# Altium integrated library ZMDI IO-LINK.IntLib: 8 symbols
Pins are listed as number, name and electrical type; pins without a type are passive.

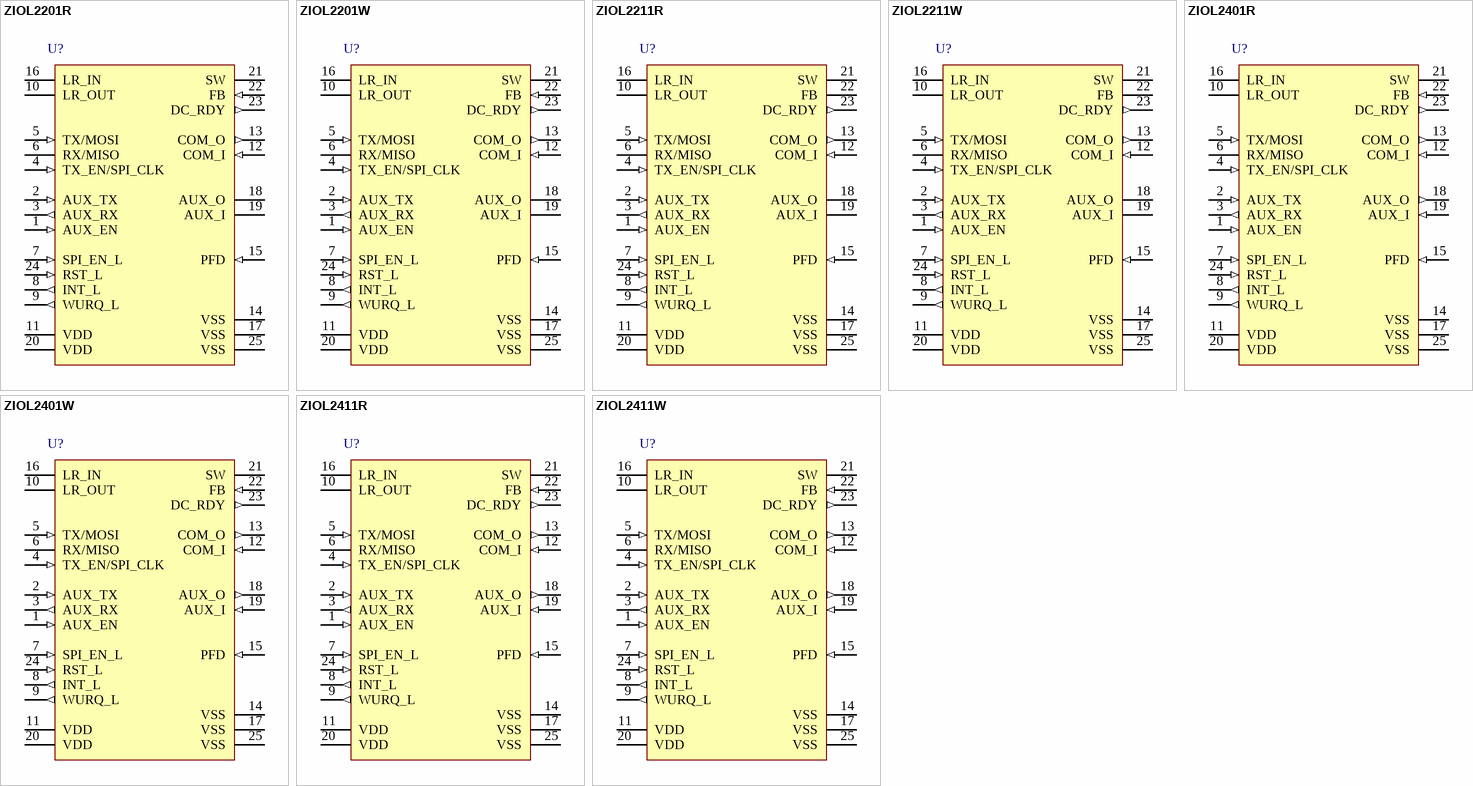
[diagram p0: symbols ZIOL2201R to ZIOL2411W]

## ZIOL2201R
designator U?
IO-Link Compliant HV Line Driver IC, 1 Channel, 8 to 36 V Supply Voltage, -40 to 85 degC, 24-Pin QFN, Reel, RoHS; Manufacturer: ZMDI; PartNumber: ZIOL2201R; Number of Channels: 1; Supply Voltage (V): 8 to 36; DatasheetVersion: Rev. 2.2.1; PackageReference: QFN24; PackageDescription: 24-Pin Plastic Quad Flatpack, No Leads, 4 x 4 mm Body, 0.5 mm Pitch, 2.6 x 2.6 mm Exposed Pad; Supplier 1: Mouser; Supplier Part Number 1: 964-ZIOL2201BI1R; Packing: Reel; RoHS: TRUE; Mounting Technology: Surface Mount; Code_JEDEC: MO-220; ComponentLink1Description: Manufacturer URL; ComponentLink1URL: http://www.zmdi.com/; ComponentLink2Description: Datasheet; ComponentLink2URL: http://www.zmdi.com/sites/default/files/ZIOL2xxx-Data_Sheet_Rev2.2.1_0.pdf; ComponentLink3Description: Package Specification; ComponentLink3URL: http://www.zmdi.com/sites/default/files/ZIOL2xxx-Data_Sheet_Rev2.2.1_0.pdf
footprint ZMDI-QFN24_N (QFN, 24-Leads, Body 4.1x4.1mm, Pitch 0.5mm, Thermal Pad 2.6x2.6mm, IPC Medium Density)
footprint ZMDI-QFN24_L (QFN, 24-Leads, Body 4.1x4.1mm, Pitch 0.5mm, Thermal Pad 2.6x2.6mm, IPC High Density)
footprint ZMDI-QFN24_M (QFN, 24-Leads, Body 4.1x4.1mm, Pitch 0.5mm, Thermal Pad 2.6x2.6mm, IPC Low Density)
pins: 1 AUX_EN (in) "AUX driver enable", 2 AUX_TX (in) "TX:Data input", 3 AUX_RX (out) "RX:Data output", 4 TX_EN/SPI_CLK (in) "COM driver enable", 5 TX/MOSI (in) "TX:Data input    MOSI:SPI IN", 6 RX/MISO (hiz) "RX:Data output    MISO:SPI OUT", 7 SPI_EN_L (in) "SPI enable", 8 INT_L (out) "Overload indication", 9 WURQ_L (out) "Wake up detect signal", 10 LR_OUT (power) "Linear regulator Output Voltage (LV)", 11 VDD (power) "Positive external supply voltage pins", 12 COM_I (in) "COM driver IN", 13 COM_O (out) "COM driver OUT", 14 VSS (power) "Negative external supply voltage pins", 15 PFD (in) "Power Fail Detector(sense input of the line-fail detector)", 16 LR_IN (power) "Linear regulator Input Voltage (HV)", 17 VSS (power) "Negative external supply voltage pins", 18 AUX_O "AUX driver OUT", 19 AUX_I "AUX driver IN", 20 VDD (power) "Positive external supply voltage pins", 21 SW (power) "DC/DC switch OUT", 22 FB (in) "DC/DC feed back", 23 DC_RDY (out) "DC/DC ready signal", 24 RST_L (in) "Reset Input", 25 VSS (power) "Exposed die paddle"

## ZIOL2201W
designator U?
IO-Link Compliant HV Line Driver IC, 1 Channel, 8 to 36 V Supply Voltage, -40 to 85 degC, 24-Pin QFN, Reel, RoHS; Manufacturer: ZMDI; PartNumber: ZIOL2201W; Number of Channels: 1; Supply Voltage (V): 8 to 36; DatasheetVersion: Rev. 2.2.1; PackageReference: QFN24; PackageDescription: 24-Pin Plastic Quad Flatpack, No Leads, 4 x 4 mm Body, 0.5 mm Pitch, 2.6 x 2.6 mm Exposed Pad; Supplier 1: Mouser; Supplier Part Number 1: 964-ZIOL2201BI1W; Packing: Reel; RoHS: TRUE; Mounting Technology: Surface Mount; Code_JEDEC: MO-220; ComponentLink1Description: Manufacturer URL; ComponentLink1URL: http://www.zmdi.com/; ComponentLink2Description: Datasheet; ComponentLink2URL: http://www.zmdi.com/sites/default/files/ZIOL2xxx-Data_Sheet_Rev2.2.1_0.pdf; ComponentLink3Description: Package Specification; ComponentLink3URL: http://www.zmdi.com/sites/default/files/ZIOL2xxx-Data_Sheet_Rev2.2.1_0.pdf
footprint ZMDI-QFN24_N (QFN, 24-Leads, Body 4.1x4.1mm, Pitch 0.5mm, Thermal Pad 2.6x2.6mm, IPC Medium Density)
footprint ZMDI-QFN24_L (QFN, 24-Leads, Body 4.1x4.1mm, Pitch 0.5mm, Thermal Pad 2.6x2.6mm, IPC High Density)
footprint ZMDI-QFN24_M (QFN, 24-Leads, Body 4.1x4.1mm, Pitch 0.5mm, Thermal Pad 2.6x2.6mm, IPC Low Density)
pins: 1 AUX_EN (in) "AUX driver enable", 2 AUX_TX (in) "TX:Data input", 3 AUX_RX (out) "RX:Data output", 4 TX_EN/SPI_CLK (in) "COM driver enable", 5 TX/MOSI (in) "TX:Data input    MOSI:SPI IN", 6 RX/MISO (hiz) "RX:Data output    MISO:SPI OUT", 7 SPI_EN_L (in) "SPI enable", 8 INT_L (out) "Overload indication", 9 WURQ_L (out) "Wake up detect signal", 10 LR_OUT (power) "Linear regulator Output Voltage (LV)", 11 VDD (power) "Positive external supply voltage pins", 12 COM_I (in) "COM driver IN", 13 COM_O (out) "COM driver OUT", 14 VSS (power) "Negative external supply voltage pins", 15 PFD (in) "Power Fail Detector(sense input of the line-fail detector)", 16 LR_IN (power) "Linear regulator Input Voltage (HV)", 17 VSS (power) "Negative external supply voltage pins", 18 AUX_O "AUX driver OUT", 19 AUX_I "AUX driver IN", 20 VDD (power) "Positive external supply voltage pins", 21 SW (power) "DC/DC switch OUT", 22 FB (in) "DC/DC feed back", 23 DC_RDY (out) "DC/DC ready signal", 24 RST_L (in) "Reset Input", 25 VSS (power) "Exposed die paddle"

## ZIOL2211R
designator U?
IO-Link Compliant HV Line Driver IC, 1 Channel, 8 to 36 V Supply Voltage, -40 to 85 degC, 24-Pin QFN, Reel, RoHS; Manufacturer: ZMDI; PartNumber: ZIOL2211R; Number of Channels: 1; Supply Voltage (V): 8 to 36; DatasheetVersion: Rev. 2.2.1; PackageReference: QFN24; PackageDescription: 24-Pin Plastic Quad Flatpack, No Leads, 4 x 4 mm Body, 0.5 mm Pitch, 2.6 x 2.6 mm Exposed Pad; Supplier 1: Mouser; Supplier Part Number 1: 964-ZIOL2211BI1R; Packing: Reel; RoHS: TRUE; Mounting Technology: Surface Mount; Code_JEDEC: MO-220; ComponentLink1Description: Manufacturer URL; ComponentLink1URL: http://www.zmdi.com/; ComponentLink2Description: Datasheet; ComponentLink2URL: http://www.zmdi.com/sites/default/files/ZIOL2xxx-Data_Sheet_Rev2.2.1_0.pdf; ComponentLink3Description: Package Specification; ComponentLink3URL: http://www.zmdi.com/sites/default/files/ZIOL2xxx-Data_Sheet_Rev2.2.1_0.pdf
footprint ZMDI-QFN24_N (QFN, 24-Leads, Body 4.1x4.1mm, Pitch 0.5mm, Thermal Pad 2.6x2.6mm, IPC Medium Density)
footprint ZMDI-QFN24_L (QFN, 24-Leads, Body 4.1x4.1mm, Pitch 0.5mm, Thermal Pad 2.6x2.6mm, IPC High Density)
footprint ZMDI-QFN24_M (QFN, 24-Leads, Body 4.1x4.1mm, Pitch 0.5mm, Thermal Pad 2.6x2.6mm, IPC Low Density)
pins: 1 AUX_EN (in) "AUX driver enable", 2 AUX_TX (in) "TX:Data input", 3 AUX_RX (out) "RX:Data output", 4 TX_EN/SPI_CLK (in) "COM driver enable", 5 TX/MOSI (in) "TX:Data input    MOSI:SPI IN", 6 RX/MISO (hiz) "RX:Data output    MISO:SPI OUT", 7 SPI_EN_L (in) "SPI enable", 8 INT_L (out) "Overload indication", 9 WURQ_L (out) "Wake up detect signal", 10 LR_OUT (power) "Linear regulator Output Voltage (LV)", 11 VDD (power) "Positive external supply voltage pins", 12 COM_I (in) "COM driver IN", 13 COM_O (out) "COM driver OUT", 14 VSS (power) "Negative external supply voltage pins", 15 PFD (in) "Power Fail Detector(sense input of the line-fail detector)", 16 LR_IN (power) "Linear regulator Input Voltage (HV)", 17 VSS (power) "Negative external supply voltage pins", 18 AUX_O "AUX driver OUT", 19 AUX_I "AUX driver IN", 20 VDD (power) "Positive external supply voltage pins", 21 SW "DC/DC switch OUT", 22 FB "DC/DC feed back", 23 DC_RDY (out) "DC/DC ready signal", 24 RST_L (in) "Reset Input", 25 VSS (power) "Exposed die paddle"

## ZIOL2211W
designator U?
IO-Link Compliant HV Line Driver IC, 1 Channel, 8 to 36 V Supply Voltage, -40 to 85 degC, 24-Pin QFN, Reel, RoHS; Manufacturer: ZMDI; PartNumber: ZIOL2211W; Number of Channels: 1; Supply Voltage (V): 8 to 36; DatasheetVersion: Rev. 2.2.1; PackageReference: QFN24; PackageDescription: 24-Pin Plastic Quad Flatpack, No Leads, 4 x 4 mm Body, 0.5 mm Pitch, 2.6 x 2.6 mm Exposed Pad; Supplier 1: Mouser; Supplier Part Number 1: 964-ZIOL2211BI1W; Packing: Reel; RoHS: TRUE; Mounting Technology: Surface Mount; Code_JEDEC: MO-220; ComponentLink1Description: Manufacturer URL; ComponentLink1URL: http://www.zmdi.com/; ComponentLink2Description: Datasheet; ComponentLink2URL: http://www.zmdi.com/sites/default/files/ZIOL2xxx-Data_Sheet_Rev2.2.1_0.pdf; ComponentLink3Description: Package Specification; ComponentLink3URL: http://www.zmdi.com/sites/default/files/ZIOL2xxx-Data_Sheet_Rev2.2.1_0.pdf
footprint ZMDI-QFN24_N (QFN, 24-Leads, Body 4.1x4.1mm, Pitch 0.5mm, Thermal Pad 2.6x2.6mm, IPC Medium Density)
footprint ZMDI-QFN24_L (QFN, 24-Leads, Body 4.1x4.1mm, Pitch 0.5mm, Thermal Pad 2.6x2.6mm, IPC High Density)
footprint ZMDI-QFN24_M (QFN, 24-Leads, Body 4.1x4.1mm, Pitch 0.5mm, Thermal Pad 2.6x2.6mm, IPC Low Density)
pins: 1 AUX_EN (in) "AUX driver enable", 2 AUX_TX (in) "TX:Data input", 3 AUX_RX (out) "RX:Data output", 4 TX_EN/SPI_CLK (in) "COM driver enable", 5 TX/MOSI (in) "TX:Data input    MOSI:SPI IN", 6 RX/MISO (hiz) "RX:Data output    MISO:SPI OUT", 7 SPI_EN_L (in) "SPI enable", 8 INT_L (out) "Overload indication", 9 WURQ_L (out) "Wake up detect signal", 10 LR_OUT (power) "Linear regulator Output Voltage (LV)", 11 VDD (power) "Positive external supply voltage pins", 12 COM_I (in) "COM driver IN", 13 COM_O (out) "COM driver OUT", 14 VSS (power) "Negative external supply voltage pins", 15 PFD (in) "Power Fail Detector(sense input of the line-fail detector)", 16 LR_IN (power) "Linear regulator Input Voltage (HV)", 17 VSS (power) "Negative external supply voltage pins", 18 AUX_O "AUX driver OUT", 19 AUX_I "AUX driver IN", 20 VDD (power) "Positive external supply voltage pins", 21 SW "DC/DC switch OUT", 22 FB "DC/DC feed back", 23 DC_RDY (out) "DC/DC ready signal", 24 RST_L (in) "Reset Input", 25 VSS (power) "Exposed die paddle"

## ZIOL2401R
designator U?
IO-Link Compliant HV Line Driver IC, 2 Channels, 8 to 36 V Supply Voltage, -40 to 85 degC, 24-Pin QFN, Reel, RoHS; Manufacturer: ZMDI; PartNumber: ZIOL2401R; Number of Channels: 2; Supply Voltage (V): 8 to 36; DatasheetVersion: Rev. 2.2.1; PackageReference: QFN24; PackageDescription: 24-Pin Plastic Quad Flatpack, No Leads, 4 x 4 mm Body, 0.5 mm Pitch, 2.6 x 2.6 mm Exposed Pad; Supplier 1: Mouser; Supplier Part Number 1: 964-ZIOL2401BI1R; Packing: Reel; RoHS: TRUE; Mounting Technology: Surface Mount; Code_JEDEC: MO-220; ComponentLink1Description: Manufacturer URL; ComponentLink1URL: http://www.zmdi.com/; ComponentLink2Description: Datasheet; ComponentLink2URL: http://www.zmdi.com/sites/default/files/ZIOL2xxx-Data_Sheet_Rev2.2.1_0.pdf; ComponentLink3Description: Package Specification; ComponentLink3URL: http://www.zmdi.com/sites/default/files/ZIOL2xxx-Data_Sheet_Rev2.2.1_0.pdf
footprint ZMDI-QFN24_N (QFN, 24-Leads, Body 4.1x4.1mm, Pitch 0.5mm, Thermal Pad 2.6x2.6mm, IPC Medium Density)
footprint ZMDI-QFN24_L (QFN, 24-Leads, Body 4.1x4.1mm, Pitch 0.5mm, Thermal Pad 2.6x2.6mm, IPC High Density)
footprint ZMDI-QFN24_M (QFN, 24-Leads, Body 4.1x4.1mm, Pitch 0.5mm, Thermal Pad 2.6x2.6mm, IPC Low Density)
pins: 1 AUX_EN (in) "AUX driver enable", 2 AUX_TX (in) "TX: Data input", 3 AUX_RX (out) "RX: Data output", 4 TX_EN/SPI_CLK (in), 5 TX/MOSI (in), 6 RX/MISO (hiz), 7 SPI_EN_L (in) "SPI enable", 8 INT_L (out) "Overload indication", 9 WURQ_L (out) "Wake up detect signal", 10 LR_OUT (power), 11 VDD (power), 12 COM_I (in) "COM driver IN", 13 COM_O (out) "COM driver OUT", 14 VSS (power) "Negative external supply voltage pins", 15 PFD (in), 16 LR_IN (power), 17 VSS (power) "Negative external supply voltage pins", 18 AUX_O (out) "AUX driver OUT", 19 AUX_I (in) "AUX driver IN", 20 VDD (power), 21 SW (power) "DC/DC switch OUT", 22 FB (in) "DC/DC feed back", 23 DC_RDY (out) "DC/DC ready signal", 24 RST_L (in) "Reset Input", 25 VSS (power) "Exposed die paddle"

## ZIOL2401W
designator U?
IO-Link Compliant HV Line Driver IC, 2 Channels, 8 to 36 V Supply Voltage, -40 to 85 degC, 24-Pin QFN, Reel, RoHS; Manufacturer: ZMDI; PartNumber: ZIOL2401W; Number of Channels: 2; Supply Voltage (V): 8 to 36; DatasheetVersion: Rev. 2.2.1; PackageReference: QFN24; PackageDescription: 24-Pin Plastic Quad Flatpack, No Leads, 4 x 4 mm Body, 0.5 mm Pitch, 2.6 x 2.6 mm Exposed Pad; Supplier 1: Mouser; Supplier Part Number 1: 964-ZIOL2401BI1W; Packing: Reel; RoHS: TRUE; Mounting Technology: Surface Mount; Code_JEDEC: MO-220; ComponentLink1Description: Manufacturer URL; ComponentLink1URL: http://www.zmdi.com/; ComponentLink2Description: Datasheet; ComponentLink2URL: http://www.zmdi.com/sites/default/files/ZIOL2xxx-Data_Sheet_Rev2.2.1_0.pdf; ComponentLink3Description: Package Specification; ComponentLink3URL: http://www.zmdi.com/sites/default/files/ZIOL2xxx-Data_Sheet_Rev2.2.1_0.pdf
footprint ZMDI-QFN24_N (QFN, 24-Leads, Body 4.1x4.1mm, Pitch 0.5mm, Thermal Pad 2.6x2.6mm, IPC Medium Density)
footprint ZMDI-QFN24_L (QFN, 24-Leads, Body 4.1x4.1mm, Pitch 0.5mm, Thermal Pad 2.6x2.6mm, IPC High Density)
footprint ZMDI-QFN24_M (QFN, 24-Leads, Body 4.1x4.1mm, Pitch 0.5mm, Thermal Pad 2.6x2.6mm, IPC Low Density)
pins: 1 AUX_EN (in) "AUX driver enable", 2 AUX_TX (in) "TX: Data input", 3 AUX_RX (out) "RX: Data output", 4 TX_EN/SPI_CLK (in), 5 TX/MOSI (in), 6 RX/MISO (hiz), 7 SPI_EN_L (in) "SPI enable", 8 INT_L (out) "Overload indication", 9 WURQ_L (out) "Wake up detect signal", 10 LR_OUT (power), 11 VDD (power), 12 COM_I (in) "COM driver IN", 13 COM_O (out) "COM driver OUT", 14 VSS (power) "Negative external supply voltage pins", 15 PFD (in), 16 LR_IN (power), 17 VSS (power) "Negative external supply voltage pins", 18 AUX_O (out) "AUX driver OUT", 19 AUX_I (in) "AUX driver IN", 20 VDD (power), 21 SW (power) "DC/DC switch OUT", 22 FB (in) "DC/DC feed back", 23 DC_RDY (out) "DC/DC ready signal", 24 RST_L (in) "Reset Input", 25 VSS (power) "Exposed die paddle"

## ZIOL2411R
designator U?
IO-Link Compliant HV Line Driver IC, 2 Channels, 8 to 36 V Supply Voltage, -40 to 85 degC, 24-Pin QFN, Reel, RoHS; Manufacturer: ZMDI; PartNumber: ZIOL2411R; Number of Channels: 2; Supply Voltage (V): 8 to 36; DatasheetVersion: Rev. 2.2.1; PackageReference: QFN24; PackageDescription: 24-Pin Plastic Quad Flatpack, No Leads, 4 x 4 mm Body, 0.5 mm Pitch, 2.6 x 2.6 mm Exposed Pad; Supplier 1: Mouser; Supplier Part Number 1: 964-ZIOL2411BI1R; Packing: Reel; RoHS: TRUE; Mounting Technology: Surface Mount; Code_JEDEC: MO-220; ComponentLink1Description: Manufacturer URL; ComponentLink1URL: http://www.zmdi.com/; ComponentLink2Description: Datasheet; ComponentLink2URL: http://www.zmdi.com/sites/default/files/ZIOL2xxx-Data_Sheet_Rev2.2.1_0.pdf; ComponentLink3Description: Package Specification; ComponentLink3URL: http://www.zmdi.com/sites/default/files/ZIOL2xxx-Data_Sheet_Rev2.2.1_0.pdf
footprint ZMDI-QFN24_N (QFN, 24-Leads, Body 4.1x4.1mm, Pitch 0.5mm, Thermal Pad 2.6x2.6mm, IPC Medium Density)
footprint ZMDI-QFN24_L (QFN, 24-Leads, Body 4.1x4.1mm, Pitch 0.5mm, Thermal Pad 2.6x2.6mm, IPC High Density)
footprint ZMDI-QFN24_M (QFN, 24-Leads, Body 4.1x4.1mm, Pitch 0.5mm, Thermal Pad 2.6x2.6mm, IPC Low Density)
pins: 1 AUX_EN (in) "AUX driver enable", 2 AUX_TX (in) "TX: Data input", 3 AUX_RX (out) "RX: Data output", 4 TX_EN/SPI_CLK (in), 5 TX/MOSI (in), 6 RX/MISO (hiz), 7 SPI_EN_L (in) "SPI enable", 8 INT_L (out) "Overload indication", 9 WURQ_L (out) "Wake up detect signal", 10 LR_OUT (power), 11 VDD (power), 12 COM_I (in) "COM driver IN", 13 COM_O (out) "COM driver OUT", 14 VSS (power) "Negative external supply voltage pins", 15 PFD (in), 16 LR_IN (power), 17 VSS (power) "Negative external supply voltage pins", 18 AUX_O (out) "AUX driver OUT", 19 AUX_I (in) "AUX driver IN", 20 VDD (power), 21 SW (power) "DC/DC switch OUT", 22 FB (in) "DC/DC feed back", 23 DC_RDY (out) "DC/DC ready signal", 24 RST_L (in) "Reset Input", 25 VSS (power) "Exposed die paddle"

## ZIOL2411W
designator U?
IO-Link Compliant HV Line Driver IC, 2 Channels, 8 to 36 V Supply Voltage, -40 to 85 degC, 24-Pin QFN, Reel, RoHS; Manufacturer: ZMDI; PartNumber: ZIOL2411W; Number of Channels: 2; Supply Voltage (V): 8 to 36; DatasheetVersion: Rev. 2.2.1; PackageReference: QFN24; PackageDescription: 24-Pin Plastic Quad Flatpack, No Leads, 4 x 4 mm Body, 0.5 mm Pitch, 2.6 x 2.6 mm Exposed Pad; Supplier 1: Mouser; Supplier Part Number 1: 964-ZIOL2411BI1W; Packing: Reel; RoHS: TRUE; Mounting Technology: Surface Mount; Code_JEDEC: MO-220; ComponentLink1Description: Manufacturer URL; ComponentLink1URL: http://www.zmdi.com/; ComponentLink2Description: Datasheet; ComponentLink2URL: http://www.zmdi.com/sites/default/files/ZIOL2xxx-Data_Sheet_Rev2.2.1_0.pdf; ComponentLink3Description: Package Specification; ComponentLink3URL: http://www.zmdi.com/sites/default/files/ZIOL2xxx-Data_Sheet_Rev2.2.1_0.pdf
footprint ZMDI-QFN24_N (QFN, 24-Leads, Body 4.1x4.1mm, Pitch 0.5mm, Thermal Pad 2.6x2.6mm, IPC Medium Density)
footprint ZMDI-QFN24_L (QFN, 24-Leads, Body 4.1x4.1mm, Pitch 0.5mm, Thermal Pad 2.6x2.6mm, IPC High Density)
footprint ZMDI-QFN24_M (QFN, 24-Leads, Body 4.1x4.1mm, Pitch 0.5mm, Thermal Pad 2.6x2.6mm, IPC Low Density)
pins: 1 AUX_EN (in) "AUX driver enable", 2 AUX_TX (in) "TX: Data input", 3 AUX_RX (out) "RX: Data output", 4 TX_EN/SPI_CLK (in), 5 TX/MOSI (in), 6 RX/MISO (hiz), 7 SPI_EN_L (in) "SPI enable", 8 INT_L (out) "Overload indication", 9 WURQ_L (out) "Wake up detect signal", 10 LR_OUT (power), 11 VDD (power), 12 COM_I (in) "COM driver IN", 13 COM_O (out) "COM driver OUT", 14 VSS (power) "Negative external supply voltage pins", 15 PFD (in), 16 LR_IN (power), 17 VSS (power) "Negative external supply voltage pins", 18 AUX_O (out) "AUX driver OUT", 19 AUX_I (in) "AUX driver IN", 20 VDD (power), 21 SW (power) "DC/DC switch OUT", 22 FB (in) "DC/DC feed back", 23 DC_RDY (out) "DC/DC ready signal", 24 RST_L (in) "Reset Input", 25 VSS (power) "Exposed die paddle"